# Altium schematic symbol library SBH11-PBPC-D20-RA-BK.SchLib: 1 symbol
Pins are listed as number, name and electrical type; pins without a type are passive.

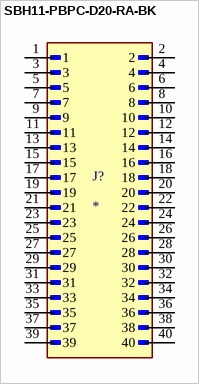
[diagram p0: symbol SBH11-PBPC-D20-RA-BK]

## SBH11-PBPC-D20-RA-BK
designator J?
Connector Header Through Hole, Right Angle 40 position 0.100 (2.54mm); MF: Sullins Connector; MP: SBH11-PBPC-D20-RA-BK; SnapEDA_Link: https://www.snapeda.com/parts/SBH11-PBPC-D20-RA-BK/Sullins+Connector+Solutions/view-part/?ref=snap; Package: None; Value: *; Check_prices: https://www.snapeda.com/parts/SBH11-PBPC-D20-RA-BK/Sullins+Connector+Solutions/view-part/?ref=eda
footprint SULLINS_SBH11-PBPC-D20-RA-BK
pins: 1, 2, 3, 4, 5, 6, 7, 8, 9, 10, 11, 12, 13, 14, 15, 16, 17, 18, 19, 20, 21, 22, 23, 24, 25, 26, 27, 28, 29, 30, 31, 32, 33, 34, 35, 36, 37, 38, 39, 40